# EAGLE library part WM8805 (library yb-library)
8:1 Digital Interface (SPDIF) Transceiver with PLL
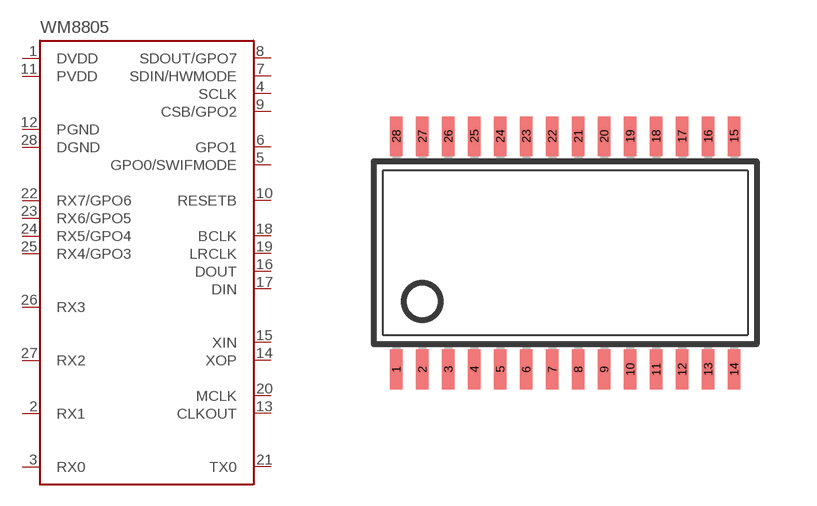
[diagram p20: symbol with the pads of TSSOP28; footprint TSSOP28]

Designator prefix IC

## WM8805  [TSSOP28]
1  DVDD  sup
2  RX1  in
3  RX0  in
4  SCLK
5  GPO0/SWIFMODE
6  GPO1
7  SDIN/HWMODE  in
8  SDOUT/GPO7
9  CSB/GPO2
10  RESETB  in
11  PVDD  sup
12  PGND  sup
13  CLKOUT  out
14  XOP  out
15  XIN  in
16  DOUT  out
17  DIN  in
18  BCLK
19  LRCLK
20  MCLK
21  TX0  out
22  RX7/GPO6
23  RX6/GPO5
24  RX5/GPO4
25  RX4/GPO3
26  RX3  in
27  RX2  in
28  DGND  sup

## Footprint TSSOP28 (pad centres in mm)
Thin Shrink Small Outline Plastic 28
smd 0.305 x 0.991: 1 -4.225,-2.918; 2 -3.575,-2.918; 3 -2.925,-2.918; 4 -2.275,-2.918; 5 -1.625,-2.918; 6 -0.975,-2.918; 7 -0.325,-2.918; 8 0.325,-2.918; 9 0.975,-2.918; 10 1.625,-2.918; 11 2.275,-2.918; 12 2.925,-2.918; 13 3.575,-2.918; 14 4.225,-2.918; 15 4.225,2.918; 16 3.575,2.918; 17 2.925,2.918; 18 2.275,2.918; 19 1.625,2.918; 20 0.975,2.918; 21 0.325,2.918; 22 -0.325,2.918; 23 -0.975,2.918; 24 -1.625,2.918; 25 -2.275,2.918; 26 -2.925,2.918; 27 -3.575,2.918; 28 -4.225,2.918